# Altium schematic symbol library 5023861071.SchLib: 1 symbol
Pins are listed as number, name and electrical type; pins without a type are passive.

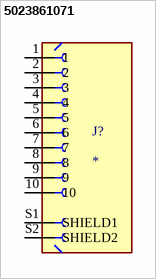
[diagram p0: symbol 5023861071]

## 5023861071
designator J?
1.25mm Pitch CLIK-Mate Wire-to-Board PCB Receptacle, Single Row, Right-Angle, Tin (Sn) Plating; MP: 5023861071; Value: *; Package: None; Price: None; Availability: Unavailable
footprint MOLEX_5023861071
pins: 1, 2, 3, 4, 5, 6, 7, 8, 9, 10, S1 SHIELD1, S2 SHIELD2